# Altium schematic symbol library SCH - CLOCK - MICROCHIP PL133-37.SCHLIB: 1 symbol
Pins are listed as number, name and electrical type; pins without a type are passive.

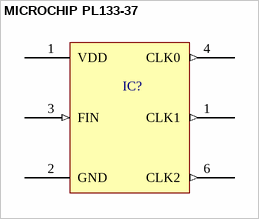
[diagram p0: symbol MICROCHIP PL133-37]

## MICROCHIP PL133-37
designator IC?
pins: 1 VDD (power), 1 CLK1 (out), 2 GND (power), 3 FIN (in), 4 CLK0 (out), 6 CLK2 (out)